# EAGLE library part MPXA6115 (library mpx-freescale)
High Temperature Accuracy Integrated Silicon Pressure Sensor for Measuring Absolute Pressure, On-Chip Signal Conditioned, Temperature Compensated and Calibrated INTEGRATED PRESSURE SENSOR 15 TO 115 kPA (2.2 TO 16.7 psi) 0.2 TO 4.8 V OUTPUT
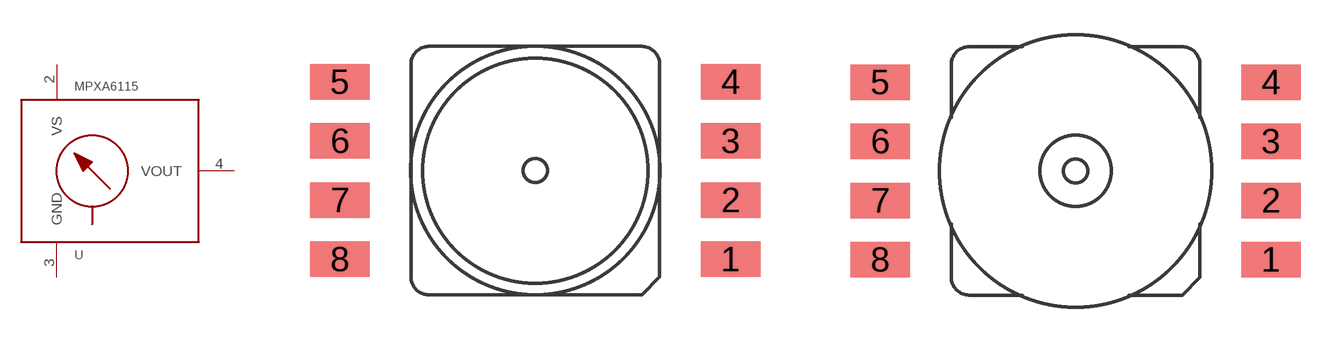
[diagram p4: symbol with the pads of 482; footprints 482, 482A]

Designator prefix -

## MPXA6115A6U  [482]
1  NC  nc
2  VS  pwr
3  GND  pwr
4  VOUT  out
5  NC  nc
6  NC  nc

## MPXA6115C6U  [482A]
Pads as for 482

## Footprint 482 (pad centres in mm)
Small Outline Package 482-01
smd 2.54 x 1.524: 1 8.382,-3.81; 2 8.382,-1.27; 3 8.382,1.27; 4 8.382,3.81; 5 -8.382,3.81; 6 -8.382,1.27; 7 -8.382,-1.27; 8 -8.382,-3.81

## Footprint 482A (pad centres in mm)
Small Outline Package 482A-01
smd 2.54 x 1.524: 1 8.382,-3.81; 2 8.382,-1.27; 3 8.382,1.27; 4 8.382,3.81; 5 -8.382,3.81; 6 -8.382,1.27; 7 -8.382,-1.27; 8 -8.382,-3.81